# Altium footprint library PcbLib1.PcbLib: 1 footprints
Each footprint in its own frame and in the unit in brackets; x right, y up, seen from the top. Pads: shape width x height; smd on the part's side, far side on the other; paste and mask are expansions set on the pad; w line width, h text height; cw(c..) or ccw(c..) is an arc to the next point about the centre after c.
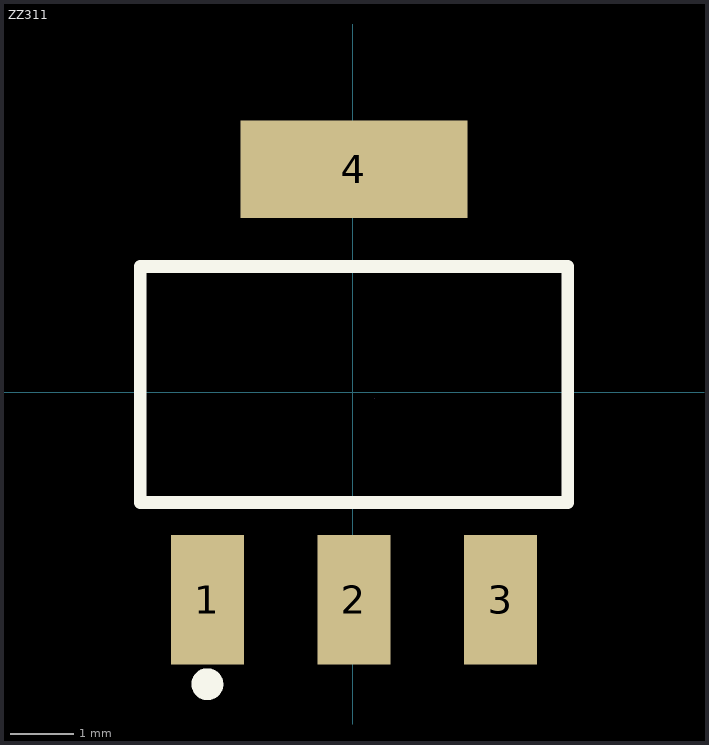
[diagram p0: the footprint, top view; thin cyan lines are the x and y axes]

## ZZ311 [mil]
pads (4):
  rect 45x80 smd: 1(-89.72,-127.91) 2(0.83,-127.91) 3(91.38,-127.91)
  rect 140x60 smd: 4(0.83,137.83)
Top Overlay:
  lines w7.87: -131.06,-67.87 132.72,-67.87 132.72,77.79 -131.06,77.79 -131.06,-67.87
  lines w9.84: -89.94,-185 cw(c-89.72,-180.08) -89.72,-185
Mechanical 15:
  lines w0.1: 13.32,-3.59 13.34,-3.57